# Altium footprint library E2S_E2S_032_V1_Review_Done.PcbLib: 2 footprints
Each footprint in its own frame and in the unit in brackets; x right, y up, seen from the top. Pads: shape width x height; smd on the part's side, far side on the other; paste and mask are expansions set on the pad; w line width, h text height; cw(c..) or ccw(c..) is an arc to the next point about the centre after c.
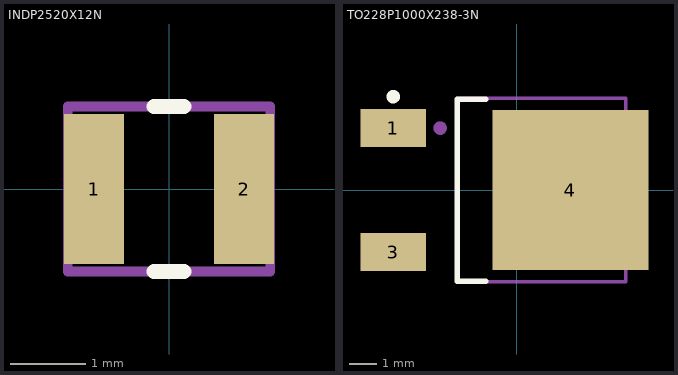
[diagram p0: the footprints below, top view; thin cyan lines are the x and y axes]

## INDP2520X12N [mm] "Molded Inductor, 2-Leads, Body 2.50x2.00mm, IPC Medium Density"
height 1.2
pads (2):
  rect 0.8x2 smd: 1(-1,0) 2(1,0)
Top Overlay:
  lines w0.203: -0.2,-1.1 0.2,-1.1 ; -0.2,1.1 0.2,1.1
Top Mechanical_Designator:
  text ".Designator" at 0,0 h1.52
Assembly Top:
  lines w0.127: -1.35,-1.1 1.35,-1.1 1.35,1.1 -1.35,1.1 -1.35,-1.1
3D body "Chip2PinSM127P600-8N.step": height 1.2, standoff 0, extent -1.35,-1.1 1.35,1.1

## TO228P1000X238-3N [mm]
height 2.38
pads (3):
  rect 2.4x1.4 smd paste-2: 1(-4.55,2.285) 3(-4.55,-2.285)
  rect 5.75x5.9 smd paste-5: 4(1.975,0)
Top Overlay:
  circle w0.25: c-4.55,3.44 r0.125
  lines w0.203: -1.15,-3.35 -2.2,-3.35 -2.2,3.35 -1.15,3.35
Top Paste:
  region: 3.8,-1.075 3.8,-2.875 4.8,-2.875 4.8,-1.075
  region: 4.8,1.125 4.8,2.925 3.8,2.925 3.8,1.125
  region: 4.8,-0.875 4.8,0.925 3.8,0.925 3.8,-0.875
  region: 1.475,-1.1 1.475,-2.9 2.475,-2.9 2.475,-1.1
  region: 2.475,1.1 2.475,2.9 1.475,2.9 1.475,1.1
  region: 2.475,-0.9 2.475,0.9 1.475,0.9 1.475,-0.9
  region: -0.85,-1.1 -0.85,-2.9 0.15,-2.9 0.15,-1.1
  region: 0.15,1.1 0.15,2.9 -0.85,2.9 -0.85,1.1
  region: 0.15,-0.9 0.15,0.9 -0.85,0.9 -0.85,-0.9
  region: -3.4,1.635 -3.4,2.935 -4.4,2.935 -4.4,1.635
  region: -4.7,1.635 -4.7,2.935 -5.7,2.935 -5.7,1.635
  region: -3.4,-2.935 -3.4,-1.635 -4.4,-1.635 -4.4,-2.935
  region: -4.7,-2.935 -4.7,-1.635 -5.7,-1.635 -5.7,-2.935
Top Mechanical_Designator:
  text ".Designator" at 0,0 h1.52
Assembly Top:
  circle w0.25: c-2.825,2.285 r0.125
  lines w0.127: -2.2,-3.375 4.02,-3.375 4.02,3.375 -2.2,3.375 -2.2,-3.375
3D body "TO228P1000X238-3N.step": height 2.38, standoff 0, extent -5.355,-3.375 4.645,3.375